# Altium footprint library Oscillators$.PcbLib: 9 footprints
Each footprint in its own frame and in the unit in brackets; x right, y up, seen from the top. Pads: shape width x height; smd on the part's side, far side on the other; paste and mask are expansions set on the pad; w line width, h text height; cw(c..) or ccw(c..) is an arc to the next point about the centre after c.
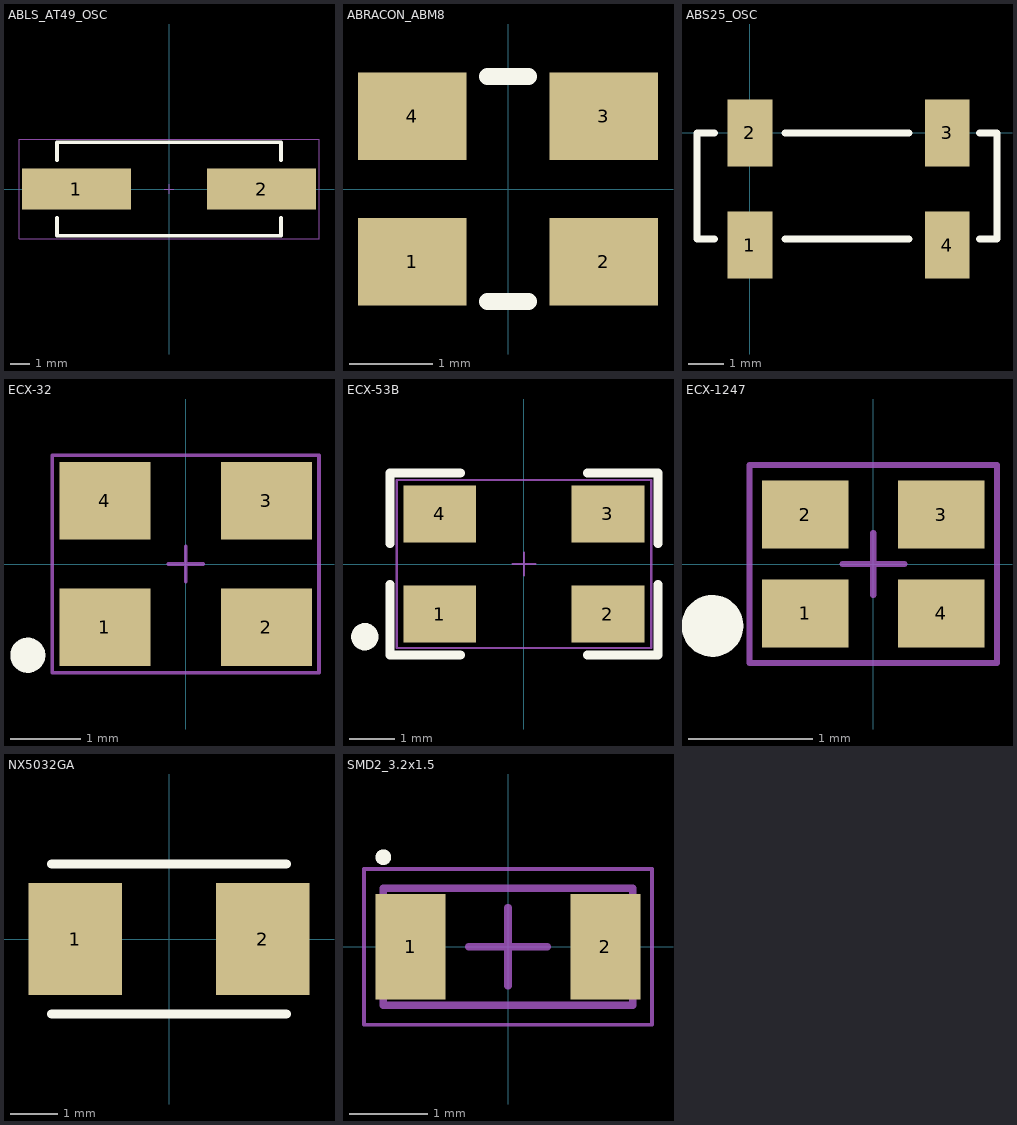
[diagram p0: the footprints below, top view; thin cyan lines are the x and y axes]

## ABLS_AT49_OSC [mil] "ABLS Crystal Oscillator"
pads (2):
  rect 220x83 smd: 1(-187.01,0) 2(186.99,0)
Top Overlay:
  lines w8: -226.38,-59.06 -226.38,-94.49 226.38,-94.49 226.38,-59.06 ; -226.38,59.06 -226.38,94.49 226.38,94.49 226.38,59.06
Mechanical 15:
  lines w1.97: -9.84,0 9.84,0 ; 0,-9.84 0,9.84 ; -303.15,-100.39 303.15,-100.39 303.15,100.39 -303.15,100.39 -303.15,-100.39
3D body "Abracon_ABLS.SLDPRT": height 157.48, standoff 0, extent -224.41,-93.5 224.41,93.51

## ABRACON_ABM8 [mm]
pads (4):
  rect 1.3x1.05 smd mask+0.05: 1(-1.15,-0.875) 2(1.15,-0.875) 3(1.15,0.875) 4(-1.15,0.875)
Top Overlay:
  lines w0.2: -0.25,-1.35 0.25,-1.35 ; -0.25,1.35 0.25,1.35
3D body "ABM8-48.000MHZ-B2-T.STEP": height 1, standoff 0, extent -1.6,-1.25 1.6,1.25

## ABS25_OSC [mil] "Abracon Tuning Fork Oscillators"
pads (4):
  rect 50x75 smd: 1(0,-125) 2(0,0) 3(220,0) 4(220,-125)
Top Overlay:
  lines w8: -39.37,-118.11 -59.06,-118.11 -59.06,0 -39.37,0 ; 39.37,-118.11 177.17,-118.11 ; 39.37,0 177.17,0 ; 255.91,-118.11 275.59,-118.11 275.59,-59.06 275.59,0 255.91,0

## ECX-32 [mm] "ECS Inc. Crystal ECX-32 Series"
pads (4):
  rect 1.3x1.1 smd mask+0.05: 1(-1.15,-0.9) 2(1.15,-0.9) 3(1.15,0.9) 4(-1.15,0.9)
Top Overlay:
  circle w0.25: c-2.25,-1.3 r0.125
Mechanical 15:
  lines w0.05: -0.25,0 0.25,0 ; 0,-0.25 0,0.25 ; -1.9,-1.55 1.9,-1.55 1.9,1.55 -1.9,1.55 -1.9,-1.55
3D body: height 0.8, standoff 0, extent -1.6,-1.25 1.6,1.25

## ECX-53B [mm] "ECS Inc. Crystal ECX-53B Series"
pads (4):
  rect 1.6x1.25 smd mask+0.05: 1(-1.85,-1.1) 2(1.85,-1.1) 3(1.85,1.1) 4(-1.85,1.1)
Top Overlay:
  circle w0.3: c-3.5,-1.6 r0.15
  lines w0.2: -2.95,-0.45 -2.95,-2 -1.4,-2 ; -2.95,0.45 -2.95,2 -1.4,2 ; 1.4,-2 2.95,-2 2.95,-0.45 ; 1.4,2 2.95,2 2.95,0.45
Mechanical 15:
  lines w0.05: -0.25,0 0.25,0 ; 0,-0.25 0,0.25 ; -2.8,-1.85 -2.8,1.85 2.8,1.85 2.8,-1.85 -2.8,-1.85
3D body: height 0.85, standoff 0, extent -2.5,-1.6 2.5,1.6

## ECX-1247 [mm] "ECS Inc. Crystal"
pads (4):
  rect 0.7x0.55 smd mask+0.05: 1(-0.55,-0.4) 2(-0.55,0.4) 3(0.55,0.4) 4(0.55,-0.4)
Top Overlay:
  circle w0.25: c-1.3,-0.5 r0.125
Mechanical 15:
  lines w0.05: -0.25,0 0.25,0 ; 0,-0.25 0,0.25 ; -1,-0.8 -1,0.8 1,0.8 1,-0.8 -1,-0.8
3D body "ECS-240-8-47-JTN-TR.STEP": height 0.35, standoff 0, extent -0.8,-0.6 0.8,0.6

## NX5032GA [mm] "NDK SMD crystal"
pads (2):
  rect 2x2.4 smd: 1(-2,0) 2(2,0)
Top Overlay:
  lines w0.2: -2.5,-1.6 2.5,-1.6 ; -2.5,1.6 2.5,1.6
3D body: height 1.3, standoff 0, extent -2.5,-1.6 2.5,1.6

## PCBComponent_1 [mm]

## SMD2_3.2x1.5 [mm] "DFN, 2-Leads, Body 1.50x3.20mm, Pitch 2.50mm, IPC Medium Density"
height 0.9
pads (2):
  rect 0.9x1.35 smd: 1(-1.25,0) 2(1.25,0)
Top Overlay:
  circle w0.1: c-1.6,1.15 r0.05
Mechanical 13:
  lines w0.1: -1.6,-0.75 -1.6,0.75 1.6,0.75 1.6,-0.75 -1.6,-0.75
Mechanical 15:
  lines w0.05: -1.85,-1 -1.85,1 1.85,1 1.85,-1 -1.85,-1
  lines w0.1: -0.5,0 0.5,0 ; 0,-0.5 0,0.5
3D body: height 0.9, standoff 0, extent -1.6,-0.75 1.6,0.75